# Altium footprint library Connector_Audio.PcbLib: 212 footprints (part 7 of 14)
Each footprint in its own frame and in the unit in brackets; x right, y up, seen from the top. Pads: shape width x height; smd on the part's side, far side on the other; paste and mask are expansions set on the pad; w line width, h text height; cw(c..) or ccw(c..) is an arc to the next point about the centre after c.
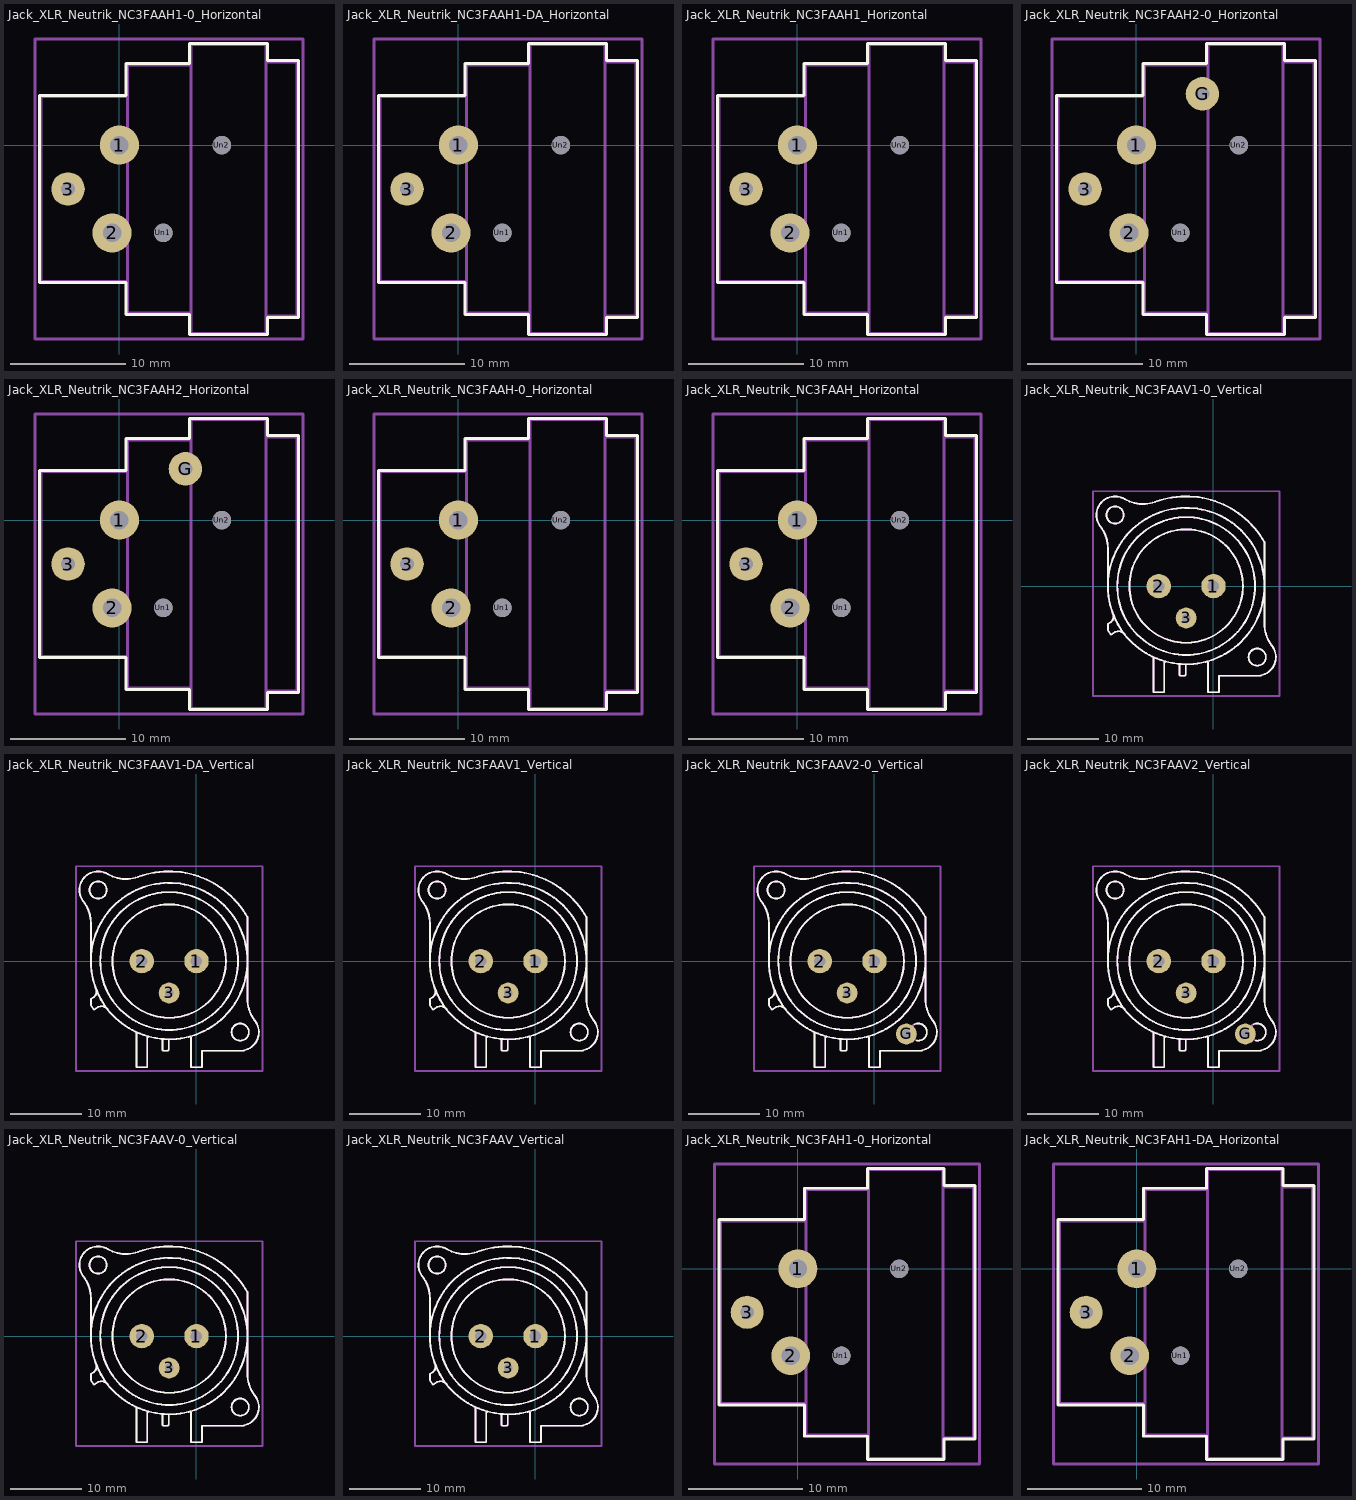
[diagram p6: the footprints below, top view; thin cyan lines are the x and y axes]

## Jack_XLR_Neutrik_NC3FAAH1-0_Horizontal [mm]
pads (5):
  round 3.4 hole 1.6: 1(0,0) 2(-0.635,-7.62)
  round 2.9 hole 1.2: 3(-4.45,-3.81)
  round 1.6 hole 1.6: Un1(3.81,-7.62) Un2(8.89,0)
F.SilkS:
  lines w0.254: -6.92,-11.93 0.58,-11.93 0.58,-14.68 6.08,-14.68 6.08,-16.43 12.82,-16.43 12.82,-14.93 15.52,-14.93 15.52,7.31 12.82,7.31 12.82,8.81 6.08,8.81 6.08,7.06 0.58,7.06 0.58,4.31 -6.92,4.31 -6.92,-11.93
Top Assembly:
  lines w0.254: 0.7,-11.81 -6.8,-11.81 -6.8,4.19 0.7,4.19 ; 6.2,-14.56 0.7,-14.56 0.7,6.94 6.2,6.94 ; 12.7,-14.81 15.4,-14.81 15.4,7.19 12.7,7.19 ; 6.2,-16.31 12.7,-16.31 12.7,8.69 6.2,8.69 6.2,-16.31
  text "'.Designator'" at 6.303,-4.65 h1
Top Courtyard:
  lines w0.254: -7.3,-16.81 15.9,-16.81 15.9,9.19 -7.3,9.19 -7.3,-16.81
Top Designator:
  text ".Designator" at -3.318,-4.318 h1.52
Dwgs.User:
  lines w0.254: 12.7,-16.31 12.7,8.69

## Jack_XLR_Neutrik_NC3FAAH1-DA_Horizontal [mm]
pads (5):
  round 3.4 hole 1.6: 1(0,0) 2(-0.635,-7.62)
  round 2.9 hole 1.2: 3(-4.45,-3.81)
  round 1.6 hole 1.6: Un1(3.81,-7.62) Un2(8.89,0)
F.SilkS:
  lines w0.254: -6.92,-11.93 0.58,-11.93 0.58,-14.68 6.08,-14.68 6.08,-16.43 12.82,-16.43 12.82,-14.93 15.52,-14.93 15.52,7.31 12.82,7.31 12.82,8.81 6.08,8.81 6.08,7.06 0.58,7.06 0.58,4.31 -6.92,4.31 -6.92,-11.93
Top Assembly:
  lines w0.254: 0.7,-11.81 -6.8,-11.81 -6.8,4.19 0.7,4.19 ; 6.2,-14.56 0.7,-14.56 0.7,6.94 6.2,6.94 ; 12.7,-14.81 15.4,-14.81 15.4,7.19 12.7,7.19 ; 6.2,-16.31 12.7,-16.31 12.7,8.69 6.2,8.69 6.2,-16.31
  text "'.Designator'" at 6.303,-4.65 h1
Top Courtyard:
  lines w0.254: -7.3,-16.81 15.9,-16.81 15.9,9.19 -7.3,9.19 -7.3,-16.81
Top Designator:
  text ".Designator" at -3.318,-4.318 h1.52
Dwgs.User:
  lines w0.254: 12.7,-16.31 12.7,8.69

## Jack_XLR_Neutrik_NC3FAAH1_Horizontal [mm]
pads (5):
  round 3.4 hole 1.6: 1(0,0) 2(-0.635,-7.62)
  round 2.9 hole 1.2: 3(-4.45,-3.81)
  round 1.6 hole 1.6: Un1(3.81,-7.62) Un2(8.89,0)
F.SilkS:
  lines w0.254: -6.92,-11.93 0.58,-11.93 0.58,-14.68 6.08,-14.68 6.08,-16.43 12.82,-16.43 12.82,-14.93 15.52,-14.93 15.52,7.31 12.82,7.31 12.82,8.81 6.08,8.81 6.08,7.06 0.58,7.06 0.58,4.31 -6.92,4.31 -6.92,-11.93
Top Assembly:
  lines w0.254: 0.7,-11.81 -6.8,-11.81 -6.8,4.19 0.7,4.19 ; 6.2,-14.56 0.7,-14.56 0.7,6.94 6.2,6.94 ; 12.7,-14.81 15.4,-14.81 15.4,7.19 12.7,7.19 ; 6.2,-16.31 12.7,-16.31 12.7,8.69 6.2,8.69 6.2,-16.31
  text "'.Designator'" at 6.303,-4.65 h1
Top Courtyard:
  lines w0.254: -7.3,-16.81 15.9,-16.81 15.9,9.19 -7.3,9.19 -7.3,-16.81
Top Designator:
  text ".Designator" at -3.318,-4.318 h1.52
Dwgs.User:
  lines w0.254: 12.7,-16.31 12.7,8.69

## Jack_XLR_Neutrik_NC3FAAH2-0_Horizontal [mm]
pads (6):
  round 3.4 hole 1.6: 1(0,0) 2(-0.635,-7.62)
  round 2.9 hole 1.2: 3(-4.45,-3.81) G(5.72,4.44)
  round 1.6 hole 1.6: Un1(3.81,-7.62) Un2(8.89,0)
F.SilkS:
  lines w0.254: -6.92,-11.93 0.58,-11.93 0.58,-14.68 6.08,-14.68 6.08,-16.43 12.82,-16.43 12.82,-14.93 15.52,-14.93 15.52,7.31 12.82,7.31 12.82,8.81 6.08,8.81 6.08,7.06 0.58,7.06 0.58,4.31 -6.92,4.31 -6.92,-11.93
Top Assembly:
  lines w0.254: 0.7,-11.81 -6.8,-11.81 -6.8,4.19 0.7,4.19 ; 6.2,-14.56 0.7,-14.56 0.7,6.94 6.2,6.94 ; 12.7,-14.81 15.4,-14.81 15.4,7.19 12.7,7.19 ; 6.2,-16.31 12.7,-16.31 12.7,8.69 6.2,8.69 6.2,-16.31
  text "'.Designator'" at 6.303,-4.65 h1
Top Courtyard:
  lines w0.254: -7.3,-16.81 15.9,-16.81 15.9,9.19 -7.3,9.19 -7.3,-16.81
Top Designator:
  text ".Designator" at -3.318,-4.318 h1.52
Dwgs.User:
  lines w0.254: 12.7,-16.31 12.7,8.69

## Jack_XLR_Neutrik_NC3FAAH2_Horizontal [mm]
pads (6):
  round 3.4 hole 1.6: 1(0,0) 2(-0.635,-7.62)
  round 2.9 hole 1.2: 3(-4.45,-3.81) G(5.72,4.44)
  round 1.6 hole 1.6: Un1(3.81,-7.62) Un2(8.89,0)
F.SilkS:
  lines w0.254: -6.92,-11.93 0.58,-11.93 0.58,-14.68 6.08,-14.68 6.08,-16.43 12.82,-16.43 12.82,-14.93 15.52,-14.93 15.52,7.31 12.82,7.31 12.82,8.81 6.08,8.81 6.08,7.06 0.58,7.06 0.58,4.31 -6.92,4.31 -6.92,-11.93
Top Assembly:
  lines w0.254: 0.7,-11.81 -6.8,-11.81 -6.8,4.19 0.7,4.19 ; 6.2,-14.56 0.7,-14.56 0.7,6.94 6.2,6.94 ; 12.7,-14.81 15.4,-14.81 15.4,7.19 12.7,7.19 ; 6.2,-16.31 12.7,-16.31 12.7,8.69 6.2,8.69 6.2,-16.31
  text "'.Designator'" at 6.303,-4.65 h1
Top Courtyard:
  lines w0.254: -7.3,-16.81 15.9,-16.81 15.9,9.19 -7.3,9.19 -7.3,-16.81
Top Designator:
  text ".Designator" at -3.318,-4.318 h1.52
Dwgs.User:
  lines w0.254: 12.7,-16.31 12.7,8.69

## Jack_XLR_Neutrik_NC3FAAH-0_Horizontal [mm]
pads (5):
  round 3.4 hole 1.6: 1(0,0) 2(-0.635,-7.62)
  round 2.9 hole 1.2: 3(-4.45,-3.81)
  round 1.6 hole 1.6: Un1(3.81,-7.62) Un2(8.89,0)
F.SilkS:
  lines w0.254: -6.92,-11.93 0.58,-11.93 0.58,-14.68 6.08,-14.68 6.08,-16.43 12.82,-16.43 12.82,-14.93 15.52,-14.93 15.52,7.31 12.82,7.31 12.82,8.81 6.08,8.81 6.08,7.06 0.58,7.06 0.58,4.31 -6.92,4.31 -6.92,-11.93
Top Assembly:
  lines w0.254: 0.7,-11.81 -6.8,-11.81 -6.8,4.19 0.7,4.19 ; 6.2,-14.56 0.7,-14.56 0.7,6.94 6.2,6.94 ; 12.7,-14.81 15.4,-14.81 15.4,7.19 12.7,7.19 ; 6.2,-16.31 12.7,-16.31 12.7,8.69 6.2,8.69 6.2,-16.31
  text "'.Designator'" at 6.303,-4.65 h1
Top Courtyard:
  lines w0.254: -7.3,-16.81 15.9,-16.81 15.9,9.19 -7.3,9.19 -7.3,-16.81
Top Designator:
  text ".Designator" at -3.318,-4.318 h1.52
Dwgs.User:
  lines w0.254: 12.7,-16.31 12.7,8.69

## Jack_XLR_Neutrik_NC3FAAH_Horizontal [mm]
pads (5):
  round 3.4 hole 1.6: 1(0,0) 2(-0.635,-7.62)
  round 2.9 hole 1.2: 3(-4.45,-3.81)
  round 1.6 hole 1.6: Un1(3.81,-7.62) Un2(8.89,0)
F.SilkS:
  lines w0.254: -6.92,-11.93 0.58,-11.93 0.58,-14.68 6.08,-14.68 6.08,-16.43 12.82,-16.43 12.82,-14.93 15.52,-14.93 15.52,7.31 12.82,7.31 12.82,8.81 6.08,8.81 6.08,7.06 0.58,7.06 0.58,4.31 -6.92,4.31 -6.92,-11.93
Top Assembly:
  lines w0.254: 0.7,-11.81 -6.8,-11.81 -6.8,4.19 0.7,4.19 ; 6.2,-14.56 0.7,-14.56 0.7,6.94 6.2,6.94 ; 12.7,-14.81 15.4,-14.81 15.4,7.19 12.7,7.19 ; 6.2,-16.31 12.7,-16.31 12.7,8.69 6.2,8.69 6.2,-16.31
  text "'.Designator'" at 6.303,-4.65 h1
Top Courtyard:
  lines w0.254: -7.3,-16.81 15.9,-16.81 15.9,9.19 -7.3,9.19 -7.3,-16.81
Top Designator:
  text ".Designator" at -3.318,-4.318 h1.52
Dwgs.User:
  lines w0.254: 12.7,-16.31 12.7,8.69

## Jack_XLR_Neutrik_NC3FAAV1-0_Vertical [mm]
pads (3):
  round 3.4 hole 1.6: 1(0,0) 2(-7.62,0)
  round 2.9 hole 1.2: 3(-3.81,-4.45)
F.SilkS:
  circle w0.254: c6.09,-9.9 r1.2
  circle w0.254: c-3.81,0 r10.9
  circle w0.254: c-3.81,0 r9.6
  circle w0.254: c-3.81,0 r7.9
  circle w0.254: c-13.71,9.9 r1.2
  lines w0.254: -15.767,8.318 cw(c-19.72,5.24) -14.71,5.24 -14.71,0 ; -15.762,8.309 cw(c-13.71,9.9) -12.38,12.13 ccw(c-9.83,16.44) -8.118,11.734 ; -13.969,-3.951 cw(c-14.92,-4.24) -14.44,-5.11 -14.71,-5.26 -14.71,-6.12 -14.32,-6.76 -13.71,-6.42 cw(c-13.22,-7.31) -12.412,-6.694 ; -8.436,-9.871 cw(c-8.57,-10.02) -8.37,-10.03 -8.37,-14.8 -6.87,-14.8 -6.87,-10.73 cw(c-6.66,-10.73) -6.678,-10.521 ; -8.129,11.731 cw(c-3.81,0) 7.09,6.12 7.09,-5.24 ccw(c12.08,-5.24) 8.142,-8.305 ; -4.908,-10.844 cw(c-4.95,-11.04) -4.75,-11.04 -4.75,-12.3 ccw(c-4.55,-12.3) -4.55,-12.5 -4.07,-12.5 ccw(c-4.07,-12.3) -3.87,-12.3 -3.87,-10.9 ; -0.949,-10.52 cw(c-0.96,-10.73) -0.75,-10.73 -0.75,-14.8 0.75,-14.8 0.75,-12.5 6.09,-12.5 ccw(c6.09,-9.9) 8.142,-8.303
Top Assembly:
  circle w0.254: c6.09,-9.9 r1.2
  circle w0.254: c-3.81,0 r10.9
  circle w0.254: c-3.81,0 r9.6
  circle w0.254: c-3.81,0 r7.9
  circle w0.254: c-13.71,9.9 r1.2
  lines w0.254: -15.767,8.318 cw(c-19.72,5.24) -14.71,5.24 -14.71,0 ; -15.762,8.309 cw(c-13.71,9.9) -12.38,12.13 ccw(c-9.83,16.44) -8.118,11.734 ; -13.969,-3.951 cw(c-14.92,-4.24) -14.44,-5.11 -14.71,-5.26 -14.71,-6.12 -14.32,-6.76 -13.71,-6.42 cw(c-13.22,-7.31) -12.412,-6.694 ; -8.436,-9.871 cw(c-8.57,-10.02) -8.37,-10.03 -8.37,-14.8 -6.87,-14.8 -6.87,-10.73 cw(c-6.66,-10.73) -6.678,-10.521 ; -8.129,11.731 cw(c-3.81,0) 7.09,6.12 7.09,-5.24 ccw(c12.08,-5.24) 8.142,-8.305 ; -4.908,-10.844 cw(c-4.95,-11.04) -4.75,-11.04 -4.75,-12.3 ccw(c-4.55,-12.3) -4.55,-12.5 -4.07,-12.5 ccw(c-4.07,-12.3) -3.87,-12.3 -3.87,-10.9 ; -0.949,-10.52 cw(c-0.96,-10.73) -0.75,-10.73 -0.75,-14.8 0.75,-14.8 0.75,-12.5 6.09,-12.5 ccw(c6.09,-9.9) 8.142,-8.303
  text "'.Designator'" at -7.857,0.16 h1
Top Courtyard:
  lines w0.254: -16.8,-15.3 9.2,-15.3 9.2,13.2 -16.8,13.2 -16.8,-15.3
Top Designator:
  text ".Designator" at -11.418,-1.558 h1.52

## Jack_XLR_Neutrik_NC3FAAV1-DA_Vertical [mm]
pads (3):
  round 3.4 hole 1.6: 1(0,0) 2(-7.62,0)
  round 2.9 hole 1.2: 3(-3.81,-4.45)
F.SilkS:
  circle w0.254: c6.09,-9.9 r1.2
  circle w0.254: c-3.81,0 r10.9
  circle w0.254: c-3.81,0 r9.6
  circle w0.254: c-3.81,0 r7.9
  circle w0.254: c-13.71,9.9 r1.2
  lines w0.254: -15.767,8.318 cw(c-19.72,5.24) -14.71,5.24 -14.71,0 ; -15.762,8.309 cw(c-13.71,9.9) -12.38,12.13 ccw(c-9.83,16.44) -8.118,11.734 ; -13.969,-3.951 cw(c-14.92,-4.24) -14.44,-5.11 -14.71,-5.26 -14.71,-6.12 -14.32,-6.76 -13.71,-6.42 cw(c-13.22,-7.31) -12.412,-6.694 ; -8.436,-9.871 cw(c-8.57,-10.02) -8.37,-10.03 -8.37,-14.8 -6.87,-14.8 -6.87,-10.73 cw(c-6.66,-10.73) -6.678,-10.521 ; -8.129,11.731 cw(c-3.81,0) 7.09,6.12 7.09,-5.24 ccw(c12.08,-5.24) 8.142,-8.305 ; -4.908,-10.844 cw(c-4.95,-11.04) -4.75,-11.04 -4.75,-12.3 ccw(c-4.55,-12.3) -4.55,-12.5 -4.07,-12.5 ccw(c-4.07,-12.3) -3.87,-12.3 -3.87,-10.9 ; -0.949,-10.52 cw(c-0.96,-10.73) -0.75,-10.73 -0.75,-14.8 0.75,-14.8 0.75,-12.5 6.09,-12.5 ccw(c6.09,-9.9) 8.142,-8.303
Top Assembly:
  circle w0.254: c6.09,-9.9 r1.2
  circle w0.254: c-3.81,0 r10.9
  circle w0.254: c-3.81,0 r9.6
  circle w0.254: c-3.81,0 r7.9
  circle w0.254: c-13.71,9.9 r1.2
  lines w0.254: -15.767,8.318 cw(c-19.72,5.24) -14.71,5.24 -14.71,0 ; -15.762,8.309 cw(c-13.71,9.9) -12.38,12.13 ccw(c-9.83,16.44) -8.118,11.734 ; -13.969,-3.951 cw(c-14.92,-4.24) -14.44,-5.11 -14.71,-5.26 -14.71,-6.12 -14.32,-6.76 -13.71,-6.42 cw(c-13.22,-7.31) -12.412,-6.694 ; -8.436,-9.871 cw(c-8.57,-10.02) -8.37,-10.03 -8.37,-14.8 -6.87,-14.8 -6.87,-10.73 cw(c-6.66,-10.73) -6.678,-10.521 ; -8.129,11.731 cw(c-3.81,0) 7.09,6.12 7.09,-5.24 ccw(c12.08,-5.24) 8.142,-8.305 ; -4.908,-10.844 cw(c-4.95,-11.04) -4.75,-11.04 -4.75,-12.3 ccw(c-4.55,-12.3) -4.55,-12.5 -4.07,-12.5 ccw(c-4.07,-12.3) -3.87,-12.3 -3.87,-10.9 ; -0.949,-10.52 cw(c-0.96,-10.73) -0.75,-10.73 -0.75,-14.8 0.75,-14.8 0.75,-12.5 6.09,-12.5 ccw(c6.09,-9.9) 8.142,-8.303
  text "'.Designator'" at -7.857,0.16 h1
Top Courtyard:
  lines w0.254: -16.8,-15.3 9.2,-15.3 9.2,13.2 -16.8,13.2 -16.8,-15.3
Top Designator:
  text ".Designator" at -11.418,-1.558 h1.52

## Jack_XLR_Neutrik_NC3FAAV1_Vertical [mm]
pads (3):
  round 3.4 hole 1.6: 1(0,0) 2(-7.62,0)
  round 2.9 hole 1.2: 3(-3.81,-4.45)
F.SilkS:
  circle w0.254: c6.09,-9.9 r1.2
  circle w0.254: c-3.81,0 r10.9
  circle w0.254: c-3.81,0 r9.6
  circle w0.254: c-3.81,0 r7.9
  circle w0.254: c-13.71,9.9 r1.2
  lines w0.254: -15.767,8.318 cw(c-19.72,5.24) -14.71,5.24 -14.71,0 ; -15.762,8.309 cw(c-13.71,9.9) -12.38,12.13 ccw(c-9.83,16.44) -8.118,11.734 ; -13.969,-3.951 cw(c-14.92,-4.24) -14.44,-5.11 -14.71,-5.26 -14.71,-6.12 -14.32,-6.76 -13.71,-6.42 cw(c-13.22,-7.31) -12.412,-6.694 ; -8.436,-9.871 cw(c-8.57,-10.02) -8.37,-10.03 -8.37,-14.8 -6.87,-14.8 -6.87,-10.73 cw(c-6.66,-10.73) -6.678,-10.521 ; -8.129,11.731 cw(c-3.81,0) 7.09,6.12 7.09,-5.24 ccw(c12.08,-5.24) 8.142,-8.305 ; -4.908,-10.844 cw(c-4.95,-11.04) -4.75,-11.04 -4.75,-12.3 ccw(c-4.55,-12.3) -4.55,-12.5 -4.07,-12.5 ccw(c-4.07,-12.3) -3.87,-12.3 -3.87,-10.9 ; -0.949,-10.52 cw(c-0.96,-10.73) -0.75,-10.73 -0.75,-14.8 0.75,-14.8 0.75,-12.5 6.09,-12.5 ccw(c6.09,-9.9) 8.142,-8.303
Top Assembly:
  circle w0.254: c6.09,-9.9 r1.2
  circle w0.254: c-3.81,0 r10.9
  circle w0.254: c-3.81,0 r9.6
  circle w0.254: c-3.81,0 r7.9
  circle w0.254: c-13.71,9.9 r1.2
  lines w0.254: -15.767,8.318 cw(c-19.72,5.24) -14.71,5.24 -14.71,0 ; -15.762,8.309 cw(c-13.71,9.9) -12.38,12.13 ccw(c-9.83,16.44) -8.118,11.734 ; -13.969,-3.951 cw(c-14.92,-4.24) -14.44,-5.11 -14.71,-5.26 -14.71,-6.12 -14.32,-6.76 -13.71,-6.42 cw(c-13.22,-7.31) -12.412,-6.694 ; -8.436,-9.871 cw(c-8.57,-10.02) -8.37,-10.03 -8.37,-14.8 -6.87,-14.8 -6.87,-10.73 cw(c-6.66,-10.73) -6.678,-10.521 ; -8.129,11.731 cw(c-3.81,0) 7.09,6.12 7.09,-5.24 ccw(c12.08,-5.24) 8.142,-8.305 ; -4.908,-10.844 cw(c-4.95,-11.04) -4.75,-11.04 -4.75,-12.3 ccw(c-4.55,-12.3) -4.55,-12.5 -4.07,-12.5 ccw(c-4.07,-12.3) -3.87,-12.3 -3.87,-10.9 ; -0.949,-10.52 cw(c-0.96,-10.73) -0.75,-10.73 -0.75,-14.8 0.75,-14.8 0.75,-12.5 6.09,-12.5 ccw(c6.09,-9.9) 8.142,-8.303
  text "'.Designator'" at -7.857,0.16 h1
Top Courtyard:
  lines w0.254: -16.8,-15.3 9.2,-15.3 9.2,13.2 -16.8,13.2 -16.8,-15.3
Top Designator:
  text ".Designator" at -11.418,-1.558 h1.52

## Jack_XLR_Neutrik_NC3FAAV2-0_Vertical [mm]
pads (4):
  round 3.4 hole 1.6: 1(0,0) 2(-7.62,0)
  round 2.9 hole 1.2: 3(-3.81,-4.45) G(4.44,-10.16)
F.SilkS:
  circle w0.254: c-3.81,0 r10.9
  circle w0.254: c-3.81,0 r9.6
  circle w0.254: c-3.81,0 r7.9
  circle w0.254: c-13.71,9.9 r1.2
  lines w0.254: -15.767,8.318 cw(c-19.72,5.24) -14.71,5.24 -14.71,0 ; -15.762,8.309 cw(c-13.71,9.9) -12.38,12.13 ccw(c-9.83,16.44) -8.118,11.734 ; -13.969,-3.951 cw(c-14.92,-4.24) -14.44,-5.11 -14.71,-5.26 -14.71,-6.12 -14.32,-6.76 -13.71,-6.42 cw(c-13.22,-7.31) -12.412,-6.694 ; -8.436,-9.871 cw(c-8.57,-10.02) -8.37,-10.03 -8.37,-14.8 -6.87,-14.8 -6.87,-10.73 cw(c-6.66,-10.73) -6.678,-10.521 ; -8.129,11.731 cw(c-3.81,0) 7.09,6.12 7.09,-5.24 ccw(c12.08,-5.24) 8.142,-8.305 ; -4.908,-10.844 cw(c-4.95,-11.04) -4.75,-11.04 -4.75,-12.3 ccw(c-4.55,-12.3) -4.55,-12.5 -4.07,-12.5 ccw(c-4.07,-12.3) -3.87,-12.3 -3.87,-10.9 ; -0.949,-10.52 cw(c-0.96,-10.73) -0.75,-10.73 -0.75,-14.8 0.75,-14.8 0.75,-12.5 6.09,-12.5 ccw(c6.09,-9.9) 8.142,-8.303 ; 5.584,-8.809 cw(c6.09,-9.9) 5.92,-11.09
Top Assembly:
  circle w0.254: c6.09,-9.9 r1.2
  circle w0.254: c-3.81,0 r10.9
  circle w0.254: c-3.81,0 r9.6
  circle w0.254: c-3.81,0 r7.9
  circle w0.254: c-13.71,9.9 r1.2
  lines w0.254: -15.767,8.318 cw(c-19.72,5.24) -14.71,5.24 -14.71,0 ; -15.762,8.309 cw(c-13.71,9.9) -12.38,12.13 ccw(c-9.83,16.44) -8.118,11.734 ; -13.969,-3.951 cw(c-14.92,-4.24) -14.44,-5.11 -14.71,-5.26 -14.71,-6.12 -14.32,-6.76 -13.71,-6.42 cw(c-13.22,-7.31) -12.412,-6.694 ; -8.436,-9.871 cw(c-8.57,-10.02) -8.37,-10.03 -8.37,-14.8 -6.87,-14.8 -6.87,-10.73 cw(c-6.66,-10.73) -6.678,-10.521 ; -8.129,11.731 cw(c-3.81,0) 7.09,6.12 7.09,-5.24 ccw(c12.08,-5.24) 8.142,-8.305 ; -4.908,-10.844 cw(c-4.95,-11.04) -4.75,-11.04 -4.75,-12.3 ccw(c-4.55,-12.3) -4.55,-12.5 -4.07,-12.5 ccw(c-4.07,-12.3) -3.87,-12.3 -3.87,-10.9 ; -0.949,-10.52 cw(c-0.96,-10.73) -0.75,-10.73 -0.75,-14.8 0.75,-14.8 0.75,-12.5 6.09,-12.5 ccw(c6.09,-9.9) 8.142,-8.303
  text "'.Designator'" at -7.857,0.16 h1
Top Courtyard:
  lines w0.254: -16.8,-15.3 9.2,-15.3 9.2,13.2 -16.8,13.2 -16.8,-15.3
Top Designator:
  text ".Designator" at -11.418,-1.558 h1.52

## Jack_XLR_Neutrik_NC3FAAV2_Vertical [mm]
pads (4):
  round 3.4 hole 1.6: 1(0,0) 2(-7.62,0)
  round 2.9 hole 1.2: 3(-3.81,-4.45) G(4.44,-10.16)
F.SilkS:
  circle w0.254: c-3.81,0 r10.9
  circle w0.254: c-3.81,0 r9.6
  circle w0.254: c-3.81,0 r7.9
  circle w0.254: c-13.71,9.9 r1.2
  lines w0.254: -15.767,8.318 cw(c-19.72,5.24) -14.71,5.24 -14.71,0 ; -15.762,8.309 cw(c-13.71,9.9) -12.38,12.13 ccw(c-9.83,16.44) -8.118,11.734 ; -13.969,-3.951 cw(c-14.92,-4.24) -14.44,-5.11 -14.71,-5.26 -14.71,-6.12 -14.32,-6.76 -13.71,-6.42 cw(c-13.22,-7.31) -12.412,-6.694 ; -8.436,-9.871 cw(c-8.57,-10.02) -8.37,-10.03 -8.37,-14.8 -6.87,-14.8 -6.87,-10.73 cw(c-6.66,-10.73) -6.678,-10.521 ; -8.129,11.731 cw(c-3.81,0) 7.09,6.12 7.09,-5.24 ccw(c12.08,-5.24) 8.142,-8.305 ; -4.908,-10.844 cw(c-4.95,-11.04) -4.75,-11.04 -4.75,-12.3 ccw(c-4.55,-12.3) -4.55,-12.5 -4.07,-12.5 ccw(c-4.07,-12.3) -3.87,-12.3 -3.87,-10.9 ; -0.949,-10.52 cw(c-0.96,-10.73) -0.75,-10.73 -0.75,-14.8 0.75,-14.8 0.75,-12.5 6.09,-12.5 ccw(c6.09,-9.9) 8.142,-8.303 ; 5.584,-8.809 cw(c6.09,-9.9) 5.92,-11.09
Top Assembly:
  circle w0.254: c6.09,-9.9 r1.2
  circle w0.254: c-3.81,0 r10.9
  circle w0.254: c-3.81,0 r9.6
  circle w0.254: c-3.81,0 r7.9
  circle w0.254: c-13.71,9.9 r1.2
  lines w0.254: -15.767,8.318 cw(c-19.72,5.24) -14.71,5.24 -14.71,0 ; -15.762,8.309 cw(c-13.71,9.9) -12.38,12.13 ccw(c-9.83,16.44) -8.118,11.734 ; -13.969,-3.951 cw(c-14.92,-4.24) -14.44,-5.11 -14.71,-5.26 -14.71,-6.12 -14.32,-6.76 -13.71,-6.42 cw(c-13.22,-7.31) -12.412,-6.694 ; -8.436,-9.871 cw(c-8.57,-10.02) -8.37,-10.03 -8.37,-14.8 -6.87,-14.8 -6.87,-10.73 cw(c-6.66,-10.73) -6.678,-10.521 ; -8.129,11.731 cw(c-3.81,0) 7.09,6.12 7.09,-5.24 ccw(c12.08,-5.24) 8.142,-8.305 ; -4.908,-10.844 cw(c-4.95,-11.04) -4.75,-11.04 -4.75,-12.3 ccw(c-4.55,-12.3) -4.55,-12.5 -4.07,-12.5 ccw(c-4.07,-12.3) -3.87,-12.3 -3.87,-10.9 ; -0.949,-10.52 cw(c-0.96,-10.73) -0.75,-10.73 -0.75,-14.8 0.75,-14.8 0.75,-12.5 6.09,-12.5 ccw(c6.09,-9.9) 8.142,-8.303
  text "'.Designator'" at -7.857,0.16 h1
Top Courtyard:
  lines w0.254: -16.8,-15.3 9.2,-15.3 9.2,13.2 -16.8,13.2 -16.8,-15.3
Top Designator:
  text ".Designator" at -11.418,-1.558 h1.52

## Jack_XLR_Neutrik_NC3FAAV-0_Vertical [mm]
pads (3):
  round 3.4 hole 1.6: 1(0,0) 2(-7.62,0)
  round 2.9 hole 1.2: 3(-3.81,-4.45)
F.SilkS:
  circle w0.254: c-13.71,9.9 r1.2
  circle w0.254: c-3.81,0 r7.9
  circle w0.254: c-3.81,0 r9.6
  circle w0.254: c-3.81,0 r10.9
  circle w0.254: c6.09,-9.9 r1.2
  lines w0.254: -15.767,8.318 cw(c-19.72,5.24) -14.71,5.24 -14.71,0 ; -15.762,8.309 cw(c-13.71,9.9) -12.38,12.13 ccw(c-9.83,16.44) -8.118,11.734 ; -13.969,-3.951 cw(c-14.92,-4.24) -14.44,-5.11 -14.71,-5.26 -14.71,-6.12 -14.32,-6.76 -13.71,-6.42 cw(c-13.22,-7.31) -12.412,-6.694 ; -8.436,-9.871 cw(c-8.57,-10.02) -8.37,-10.03 -8.37,-14.8 -6.87,-14.8 -6.87,-10.73 cw(c-6.66,-10.73) -6.678,-10.521 ; -8.129,11.731 cw(c-3.81,0) 7.09,6.12 7.09,-5.24 ccw(c12.08,-5.24) 8.142,-8.305 ; -4.908,-10.844 cw(c-4.95,-11.04) -4.75,-11.04 -4.75,-12.3 ccw(c-4.55,-12.3) -4.55,-12.5 -4.07,-12.5 ccw(c-4.07,-12.3) -3.87,-12.3 -3.87,-10.9 ; -0.949,-10.52 cw(c-0.96,-10.73) -0.75,-10.73 -0.75,-14.8 0.75,-14.8 0.75,-12.5 6.09,-12.5 ccw(c6.09,-9.9) 8.142,-8.303
Top Assembly:
  circle w0.254: c-13.71,9.9 r1.2
  circle w0.254: c-3.81,0 r7.9
  circle w0.254: c-3.81,0 r9.6
  circle w0.254: c-3.81,0 r10.9
  circle w0.254: c6.09,-9.9 r1.2
  lines w0.254: -15.767,8.318 cw(c-19.72,5.24) -14.71,5.24 -14.71,0 ; -15.762,8.309 cw(c-13.71,9.9) -12.38,12.13 ccw(c-9.83,16.44) -8.118,11.734 ; -13.969,-3.951 cw(c-14.92,-4.24) -14.44,-5.11 -14.71,-5.26 -14.71,-6.12 -14.32,-6.76 -13.71,-6.42 cw(c-13.22,-7.31) -12.412,-6.694 ; -8.436,-9.871 cw(c-8.57,-10.02) -8.37,-10.03 -8.37,-14.8 -6.87,-14.8 -6.87,-10.73 cw(c-6.66,-10.73) -6.678,-10.521 ; -8.129,11.731 cw(c-3.81,0) 7.09,6.12 7.09,-5.24 ccw(c12.08,-5.24) 8.142,-8.305 ; -4.908,-10.844 cw(c-4.95,-11.04) -4.75,-11.04 -4.75,-12.3 ccw(c-4.55,-12.3) -4.55,-12.5 -4.07,-12.5 ccw(c-4.07,-12.3) -3.87,-12.3 -3.87,-10.9 ; -0.949,-10.52 cw(c-0.96,-10.73) -0.75,-10.73 -0.75,-14.8 0.75,-14.8 0.75,-12.5 6.09,-12.5 ccw(c6.09,-9.9) 8.142,-8.303
  text "'.Designator'" at -7.857,0.16 h1
Top Courtyard:
  lines w0.254: -16.8,-15.3 -16.8,13.2 9.2,13.2 9.2,-15.3 -16.8,-15.3
Top Designator:
  text ".Designator" at -11.418,-1.558 h1.52

## Jack_XLR_Neutrik_NC3FAAV_Vertical [mm]
pads (3):
  round 3.4 hole 1.6: 1(0,0) 2(-7.62,0)
  round 2.9 hole 1.2: 3(-3.81,-4.45)
F.SilkS:
  circle w0.254: c6.09,-9.9 r1.2
  circle w0.254: c-3.81,0 r10.9
  circle w0.254: c-3.81,0 r9.6
  circle w0.254: c-3.81,0 r7.9
  circle w0.254: c-13.71,9.9 r1.2
  lines w0.254: -15.767,8.318 cw(c-19.72,5.24) -14.71,5.24 -14.71,0 ; -15.762,8.309 cw(c-13.71,9.9) -12.38,12.13 ccw(c-9.83,16.44) -8.118,11.734 ; -13.969,-3.951 cw(c-14.92,-4.24) -14.44,-5.11 -14.71,-5.26 -14.71,-6.12 -14.32,-6.76 -13.71,-6.42 cw(c-13.22,-7.31) -12.412,-6.694 ; -8.436,-9.871 cw(c-8.57,-10.02) -8.37,-10.03 -8.37,-14.8 -6.87,-14.8 -6.87,-10.73 cw(c-6.66,-10.73) -6.678,-10.521 ; -8.129,11.731 cw(c-3.81,0) 7.09,6.12 7.09,-5.24 ccw(c12.08,-5.24) 8.142,-8.305 ; -4.908,-10.844 cw(c-4.95,-11.04) -4.75,-11.04 -4.75,-12.3 ccw(c-4.55,-12.3) -4.55,-12.5 -4.07,-12.5 ccw(c-4.07,-12.3) -3.87,-12.3 -3.87,-10.9 ; -0.949,-10.52 cw(c-0.96,-10.73) -0.75,-10.73 -0.75,-14.8 0.75,-14.8 0.75,-12.5 6.09,-12.5 ccw(c6.09,-9.9) 8.142,-8.303
Top Assembly:
  circle w0.254: c6.09,-9.9 r1.2
  circle w0.254: c-3.81,0 r10.9
  circle w0.254: c-3.81,0 r9.6
  circle w0.254: c-3.81,0 r7.9
  circle w0.254: c-13.71,9.9 r1.2
  lines w0.254: -15.767,8.318 cw(c-19.72,5.24) -14.71,5.24 -14.71,0 ; -15.762,8.309 cw(c-13.71,9.9) -12.38,12.13 ccw(c-9.83,16.44) -8.118,11.734 ; -13.969,-3.951 cw(c-14.92,-4.24) -14.44,-5.11 -14.71,-5.26 -14.71,-6.12 -14.32,-6.76 -13.71,-6.42 cw(c-13.22,-7.31) -12.412,-6.694 ; -8.436,-9.871 cw(c-8.57,-10.02) -8.37,-10.03 -8.37,-14.8 -6.87,-14.8 -6.87,-10.73 cw(c-6.66,-10.73) -6.678,-10.521 ; -8.129,11.731 cw(c-3.81,0) 7.09,6.12 7.09,-5.24 ccw(c12.08,-5.24) 8.142,-8.305 ; -4.908,-10.844 cw(c-4.95,-11.04) -4.75,-11.04 -4.75,-12.3 ccw(c-4.55,-12.3) -4.55,-12.5 -4.07,-12.5 ccw(c-4.07,-12.3) -3.87,-12.3 -3.87,-10.9 ; -0.949,-10.52 cw(c-0.96,-10.73) -0.75,-10.73 -0.75,-14.8 0.75,-14.8 0.75,-12.5 6.09,-12.5 ccw(c6.09,-9.9) 8.142,-8.303
  text "'.Designator'" at -7.857,0.16 h1
Top Courtyard:
  lines w0.254: -16.8,-15.3 9.2,-15.3 9.2,13.2 -16.8,13.2 -16.8,-15.3
Top Designator:
  text ".Designator" at -11.418,-1.558 h1.52

## Jack_XLR_Neutrik_NC3FAH1-0_Horizontal [mm]
pads (5):
  round 3.4 hole 1.6: 1(0,0) 2(-0.635,-7.62)
  round 2.9 hole 1.2: 3(-4.45,-3.81)
  round 1.6 hole 1.6: Un1(3.81,-7.62) Un2(8.89,0)
F.SilkS:
  lines w0.254: -6.92,-11.93 0.58,-11.93 0.58,-14.68 6.08,-14.68 6.08,-16.73 12.82,-16.73 12.82,-14.93 15.52,-14.93 15.52,7.31 12.82,7.31 12.82,8.81 6.08,8.81 6.08,7.06 0.58,7.06 0.58,4.31 -6.92,4.31 -6.92,-11.93
Top Assembly:
  lines w0.254: 0.7,-11.81 -6.8,-11.81 -6.8,4.19 0.7,4.19 ; 6.2,-14.56 0.7,-14.56 0.7,6.94 6.2,6.94 ; 12.7,-14.81 15.4,-14.81 15.4,7.19 12.7,7.19 ; 6.2,-16.61 12.7,-16.61 12.7,8.69 6.2,8.69 6.2,-16.61
  text "'.Designator'" at 6.303,-4.65 h1
Top Courtyard:
  lines w0.254: -7.3,-17.11 15.9,-17.11 15.9,9.19 -7.3,9.19 -7.3,-17.11
Top Designator:
  text ".Designator" at -3.318,-4.468 h1.52
Dwgs.User:
  lines w0.254: 12.7,-16.61 12.7,8.69

## Jack_XLR_Neutrik_NC3FAH1-DA_Horizontal [mm]
pads (5):
  round 3.4 hole 1.6: 1(0,0) 2(-0.635,-7.62)
  round 2.9 hole 1.2: 3(-4.45,-3.81)
  round 1.6 hole 1.6: Un1(3.81,-7.62) Un2(8.89,0)
F.SilkS:
  lines w0.254: -6.92,-11.93 0.58,-11.93 0.58,-14.68 6.08,-14.68 6.08,-16.73 12.82,-16.73 12.82,-14.93 15.52,-14.93 15.52,7.31 12.82,7.31 12.82,8.81 6.08,8.81 6.08,7.06 0.58,7.06 0.58,4.31 -6.92,4.31 -6.92,-11.93
Top Assembly:
  lines w0.254: 0.7,-11.81 -6.8,-11.81 -6.8,4.19 0.7,4.19 ; 6.2,-14.56 0.7,-14.56 0.7,6.94 6.2,6.94 ; 12.7,-14.81 15.4,-14.81 15.4,7.19 12.7,7.19 ; 6.2,-16.61 12.7,-16.61 12.7,8.69 6.2,8.69 6.2,-16.61
  text "'.Designator'" at 6.303,-4.65 h1
Top Courtyard:
  lines w0.254: -7.3,-17.11 15.9,-17.11 15.9,9.19 -7.3,9.19 -7.3,-17.11
Top Designator:
  text ".Designator" at -3.318,-4.468 h1.52
Dwgs.User:
  lines w0.254: 12.7,-16.61 12.7,8.69